# EAGLE library part SWITCH_ROTARY_1X10 (library Sparkfun-Switches)
10-Position Rotary Switch Single pole, 10 position rotary switch able to select up to 10 different states. SparkFun Products Rotary Switch - 10 Position <https://www.sparkfun.com/products/13253> (COM-13253) Used on SparkFun Decade Resistance Box <https://www.sparkfun.com/products/13006>
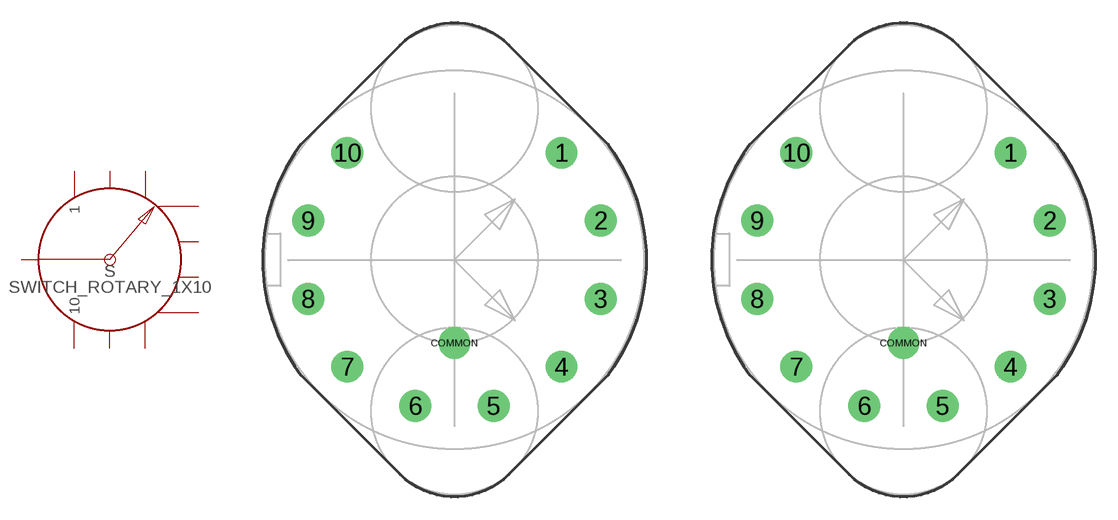
[diagram p10: symbol with the pads of ROTARY_SWITCH_1X10; footprints ROTARY_SWITCH_1X10, ROTARY_SWITCH_1X10_KIT]

Designator prefix S

## SWITCH_ROTARY_1X10-PTH (PROD_ID: SWCH-12120; SF_SKU: COM-13253)  [ROTARY_SWITCH_1X10]
1  1
2  2
3  3
4  4
5  5
6  6
7  7
8  8
9  9
10  10
COMMON  COMMON

## SWITCH_ROTARY_1X10-PTH-KIT (PROD_ID: SWCH-12120; SF_SKU: COM-13253)  [ROTARY_SWITCH_1X10_KIT]
Pads as for ROTARY_SWITCH_1X10

## Footprint ROTARY_SWITCH_1X10 (pad centres in mm)
10-Position Rotary Switch Taiwan Alpha 1 pole, 10 pos rotary switch. Arrows in tDocu denote pointer positions for 45-degree shaft, assuming a knob with a pointer that's opposite the set screw. Datasheet <https://cdn.sparkfun.com/datasheets/Components/Switches/SP14040026%20SPEC.pdf> (Alpha PN SR2512F-0110-16f2b-c9-s-k)
drill 1.4: 1 7.071,7.071; 2 9.659,2.588; 3 9.659,-2.588; 4 7.071,-7.071; 5 2.588,-9.659; 6 -2.588,-9.659; 7 -7.071,-7.071; 8 -9.659,-2.588; 9 -9.659,2.588; 10 -7.071,7.071; COMMON 0,-5.5

## Footprint ROTARY_SWITCH_1X10_KIT (pad centres in mm)
10-Position Rotary Switch - KIT Version Taiwan Alpha 1 pole, 10 pos rotary switch. Arrows in tDocu denote pointer positions for 45-degree shaft, assuming a knob with a pointer that's opposite the set screw. Warning: This is the KIT version of this package. This package has a smaller diameter top stop mask, which doesn't cover the diameter of the pad. This means only the bottom side of the pads' copper will be exposed. You'll only be able to solder to the bottom side. Datasheet <https://cdn.sparkfun.com/datasheets/Components/Switches/SP14040026%20SPEC.pdf> (Alpha PN SR2512F-0110-16f2b-c9-s-k)
drill 1.4: 1 7.071,7.071; 2 9.659,2.588; 3 9.659,-2.588; 4 7.071,-7.071; 5 2.588,-9.659; 6 -2.588,-9.659; 7 -7.071,-7.071; 8 -9.659,-2.588; 9 -9.659,2.588; 10 -7.071,7.071; COMMON 0,-5.5